# EAGLE library part RESISTOR_NET_* (library temp_sens_ring)
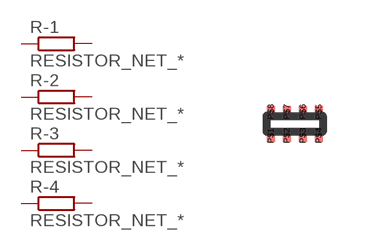
[diagram p2: symbol with the pads of R0502_4X; footprint R0502_4X]

Designator prefix R; gates -1=R-EU -2=R-EU -3=R-EU -4=R-EU

## RESISTOR_NET_4-0502  [R0502_4X]
P$1  -1:1  pas
P$2  -2:1  pas
P$3  -3:1  pas
P$4  -4:1  pas
P$5  -4:2  pas
P$6  -3:2  pas
P$7  -2:2  pas
P$8  -1:2  pas

## Footprint R0502_4X (pad centres in mm)
smd 0.2 x 0.3: P$1 -0.6,-0.3; P$2 -0.2,-0.3; P$3 0.2,-0.3; P$4 0.6,-0.3; P$5 0.6,0.3; P$6 0.2,0.3; P$7 -0.2,0.3; P$8 -0.6,0.3